# Altium footprint library Synthiam-roundtrip2.PcbLib: 481 footprints (part 24 of 31)
Each footprint in its own frame and in the unit in brackets; x right, y up, seen from the top. Pads: shape width x height; smd on the part's side, far side on the other; paste and mask are expansions set on the pad; w line width, h text height; cw(c..) or ccw(c..) is an arc to the next point about the centre after c.
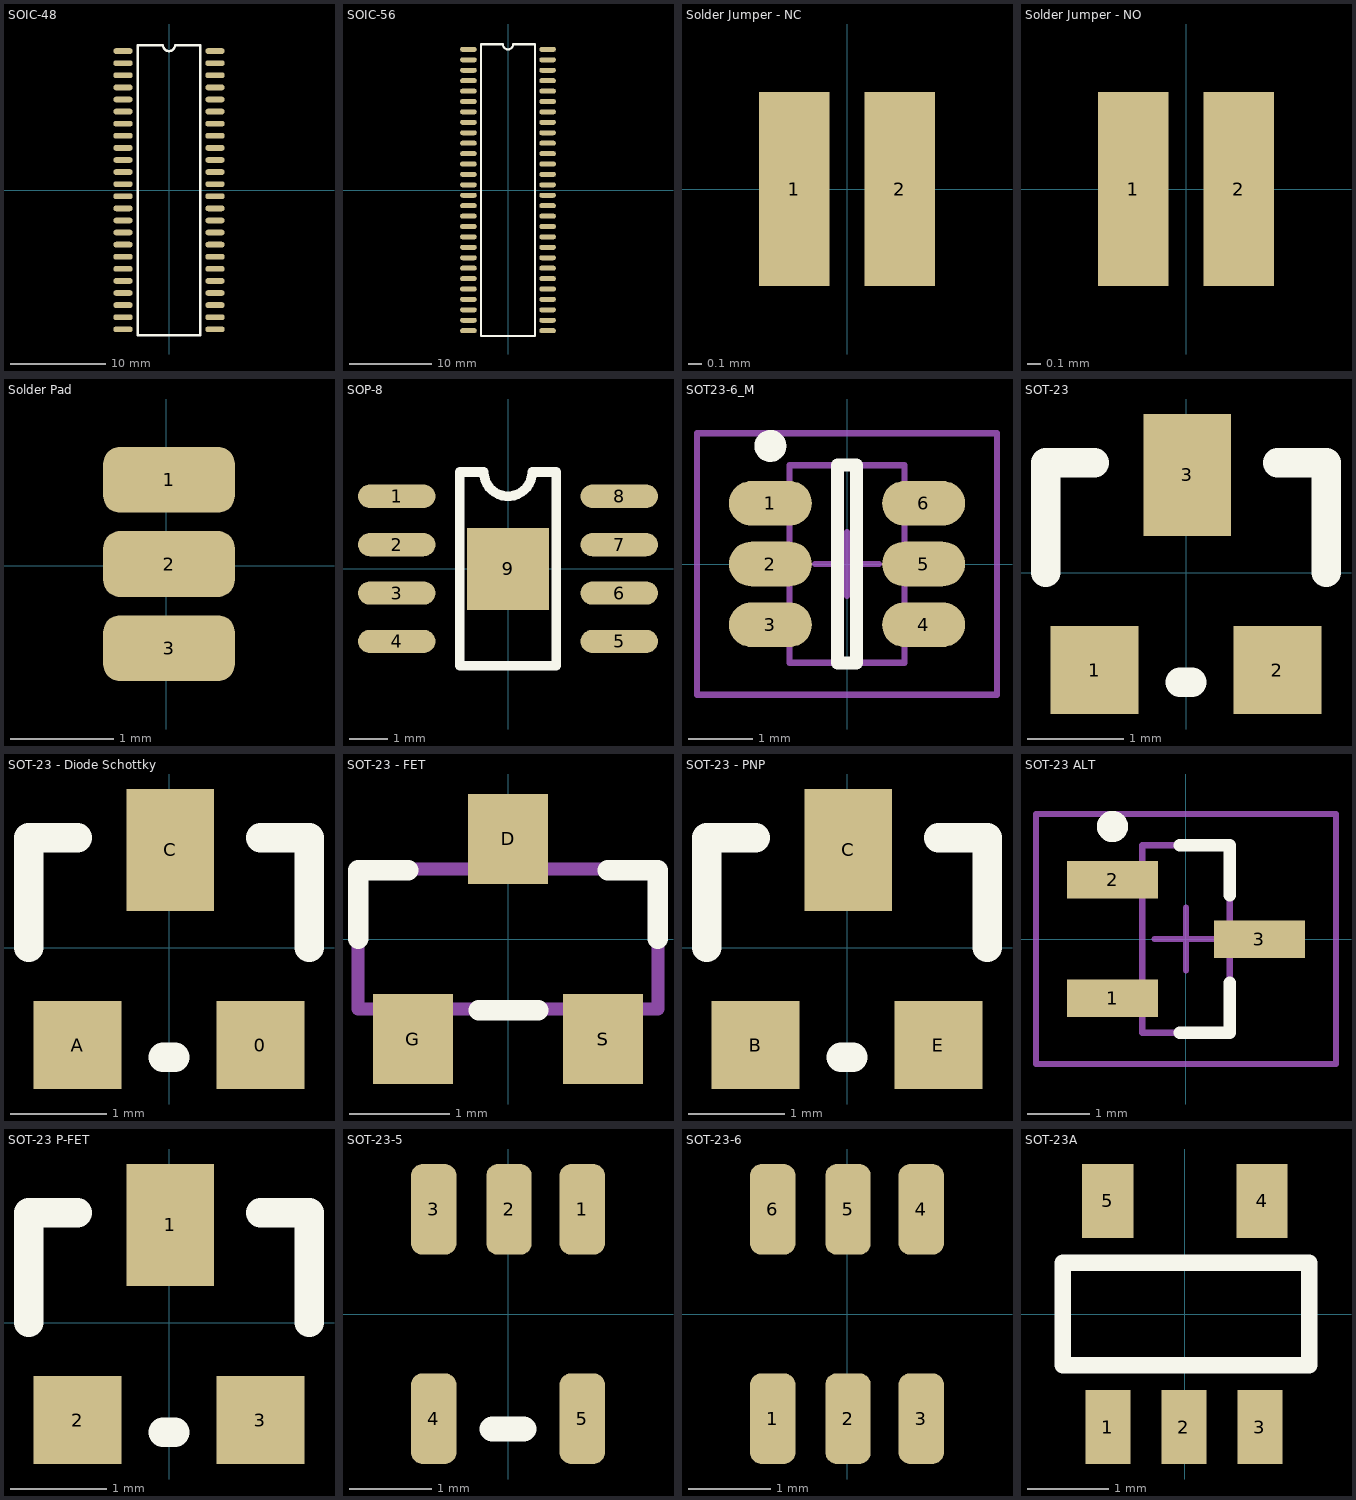
[diagram p23: the footprints below, top view; thin cyan lines are the x and y axes]

## SOIC-48 [mil]
pads (48):
  oval 80x24 smd: 1(-190,575) 2(-190,525) 3(-190,475) 4(-190,425) 5(-190,375) 6(-190,325) 7(-190,275) 8(-190,225) 9(-190,175) 10(-190,125) 11(-190,75) 12(-190,25) 13(-190,-25) 14(-190,-75) 15(-190,-125) 16(-190,-175) 17(-190,-225) 18(-190,-275) 19(-190,-325) 20(-190,-375) 21(-190,-425) 22(-190,-475) 23(-190,-525) 24(-190,-575) 25(190,-575) 26(190,-525) 27(190,-475) 28(190,-425) 29(190,-375) 30(190,-325) 31(190,-275) 32(190,-225) 33(190,-175) 34(190,-125) 35(190,-75) 36(190,-25) 37(190,25) 38(190,75) 39(190,125) 40(190,175) 41(190,225) 42(190,275) 43(190,325) 44(190,375) 45(190,425) 46(190,475) 47(190,525) 48(190,575)
Top Overlay:
  lines w10: -130,-600 130,-600 130,600 25,600 cw(c0,600) -25,600 -130,600 -130,-600

## SOIC-56 [mil]
pads (56):
  oval 80x24 smd: 1(-190,675) 2(-190,625) 3(-190,575) 4(-190,525) 5(-190,475) 6(-190,425) 7(-190,375) 8(-190,325) 9(-190,275) 10(-190,225) 11(-190,175) 12(-190,125) 13(-190,75) 14(-190,25) 15(-190,-25) 16(-190,-75) 17(-190,-125) 18(-190,-175) 19(-190,-225) 20(-190,-275) 21(-190,-325) 22(-190,-375) 23(-190,-425) 24(-190,-475) 25(-190,-525) 26(-190,-575) 27(-190,-625) 28(-190,-675) 29(190,-675) 30(190,-625) 31(190,-575) 32(190,-525) 33(190,-475) 34(190,-425) 35(190,-375) 36(190,-325) 37(190,-275) 38(190,-225) 39(190,-175) 40(190,-125) 41(190,-75) 42(190,-25) 43(190,25) 44(190,75) 45(190,125) 46(190,175) 47(190,225) 48(190,275) 49(190,325) 50(190,375) 51(190,425) 52(190,475) 53(190,525) 54(190,575) 55(190,625) 56(190,675)
Top Overlay:
  lines w10: -130,-700 -130,700 -25,700 ccw(c0,700) 25,700 130,700 130,-700 -130,-700

## Solder Jumper - NC [mil]
pads (2):
  rect 20x55 smd paste+12: 1(-15,0) 2(15,0)

## Solder Jumper - NO [mil]
pads (2):
  rect 20x55 smd paste+0: 1(-15,0) 2(15,0)

## Solder Pad [mil]
pads (3):
  rrect50% 50x25 smd: 1(1.06,32.75) 2(1.06,0.75) 3(1.06,-31.25)

## SOP-8 [mil] "Similar to SO-8 but with PAD"
pads (9):
  oval 80x24 smd: 1(-115,75) 2(-115,25) 3(-115,-25) 4(-115,-75) 5(115,-75) 6(115,-25) 7(115,25) 8(115,75)
  rect 84.65x84.65 smd: 9(0,0)
Top Overlay:
  lines w10: -50,-100 50,-100 50,100 25,100 cw(c0,100) -25,100 -50,100 -50,-100

## SOT23-6_M [mm] "SOT23, 6-Leads, Body 2.9x1.6mm, Pitch 0.95mm, Lead Span 2.7mm, IPC Low Density"
height 1.45
pads (6):
  oval 1.3x0.7 smd: 1(-1.2,0.95) 2(-1.2,0) 3(-1.2,-0.95) 4(1.2,-0.95) 5(1.2,0) 6(1.2,0.95)
Top Overlay:
  circle w0.25: c-1.2,1.85 r0.125
  lines w0.2: -0.15,-1.55 -0.15,1.55 0.15,1.55 0.15,-1.55 -0.15,-1.55
Mechanical 13:
  lines w0.1: -0.9,-1.55 0.9,-1.55 0.9,1.55 -0.9,1.55 -0.9,-1.55
Mechanical 15:
  lines w0.1: -0.5,0 0.5,0 ; 0,-0.5 0,0.5 ; -2.35,-2.05 2.35,-2.05 2.35,2.05 -2.35,2.05 -2.35,-2.05
3D body: height 1.45, standoff 0, extent -0.9,-1.55 0.9,1.55

## SOT-23 [mil]
pads (3):
  rect 36x36 smd: 1(-37.5,-40) 2(37.5,-40)
  rect 36x50 smd: 3(0.5,40)
Top Overlay:
  lines w12: -57.5,0 -57.5,45 -37.5,45 ; -2.5,-45 2.5,-45 ; 37.5,45 57.5,45 57.5,0

## SOT-23 - Diode Schottky [mil]
pads (3):
  rect 36x36 smd: 0(37.5,-40) A(-37.5,-40)
  rect 36x50 smd: C(0.5,40)
Top Overlay:
  lines w12: -57.5,0 -57.5,45 -37.5,45 ; -2.5,-45 2.5,-45 ; 37.5,45 57.5,45 57.5,0

## SOT-23 - FET [mm]
pads (3):
  rect 0.8x0.9 smd: D(0,1) G(-0.95,-1) S(0.95,-1)
Top Overlay:
  lines w0.203: -1.499,0 -1.499,0.687 -0.999,0.687 ; -0.295,-0.711 0.305,-0.711 ; 0.999,0.687 1.499,0.687 1.499,0
Mechanical 1:
  lines w0.127: -1.5,-0.7 -1.5,0.7 1.5,0.7 1.5,-0.7 -1.5,-0.7

## SOT-23 - PNP [mil]
pads (3):
  rect 36x36 smd: B(-37.5,-40) E(37.5,-40)
  rect 36x50 smd: C(0.5,40)
Top Overlay:
  lines w12: -57.5,0 -57.5,45 -37.5,45 ; -2.5,-45 2.5,-45 ; 37.5,45 57.5,45 57.5,0

## SOT-23 ALT [mm]
pads (3):
  rect 1.45x0.6 smd: 1(-1.175,-0.95) 2(-1.175,0.95) 3(1.175,0)
Top Overlay:
  circle w0.25: c-1.175,1.8 r0.125
  lines w0.2: -0.1,-1.5 0.7,-1.5 0.7,-0.7 ; -0.1,1.5 0.7,1.5 0.7,0.7
Mechanical 13:
  lines w0.1: -0.7,-1.5 0.7,-1.5 0.7,1.5 -0.7,1.5 -0.7,-1.5
Mechanical 15:
  lines w0.1: -0.5,0 0.5,0 ; 0,-0.5 0,0.5 ; -2.4,-2 2.4,-2 2.4,2 -2.4,2 -2.4,-2
3D body: height 1.14, standoff 0, extent -0.7,-1.5 0.7,1.5

## SOT-23 P-FET [mil]
pads (3):
  rect 36x50 smd: 1(0.5,40)
  rect 36x36 smd: 2(-37.5,-40) 3(37.5,-40)
Top Overlay:
  lines w12: -57.5,0 -57.5,45 -37.5,45 ; -2.5,-45 2.5,-45 ; 37.5,45 57.5,45 57.5,0

## SOT-23-5 [mm]
pads (5):
  rrect50% 0.55x1.1 smd: 1(0.902,1.27) 2(0.013,1.27) 3(-0.902,1.27) 4(-0.902,-1.27) 5(0.902,-1.27)
Top Overlay:
  lines w0.305: -0.191,-1.397 0.191,-1.397

## SOT-23-6 [mm]
pads (6):
  rrect50% 0.55x1.1 smd: 1(-0.902,-1.27) 2(0.013,-1.27) 3(0.902,-1.27) 4(0.902,1.27) 5(0.013,1.27) 6(-0.902,1.27)

## SOT-23A [mil]
pads (5):
  rect 22x36 smd: 1(-37.5,-55) 2(-0.5,-55) 3(36.5,-55)
  rect 25x36 smd: 4(37.5,55) 5(-37.5,55)
Top Overlay:
  lines w8: -59.5,-25 -59.5,25 60.5,25 60.5,-25 -59.5,-25